# Altium footprint library WG-LOCK.PcbLib: 52 footprints (part 3 of 4)
Each footprint in its own frame and in the unit in brackets; x right, y up, seen from the top. Pads: shape width x height; smd on the part's side, far side on the other; paste and mask are expansions set on the pad; w line width, h text height; cw(c..) or ccw(c..) is an arc to the next point about the centre after c.
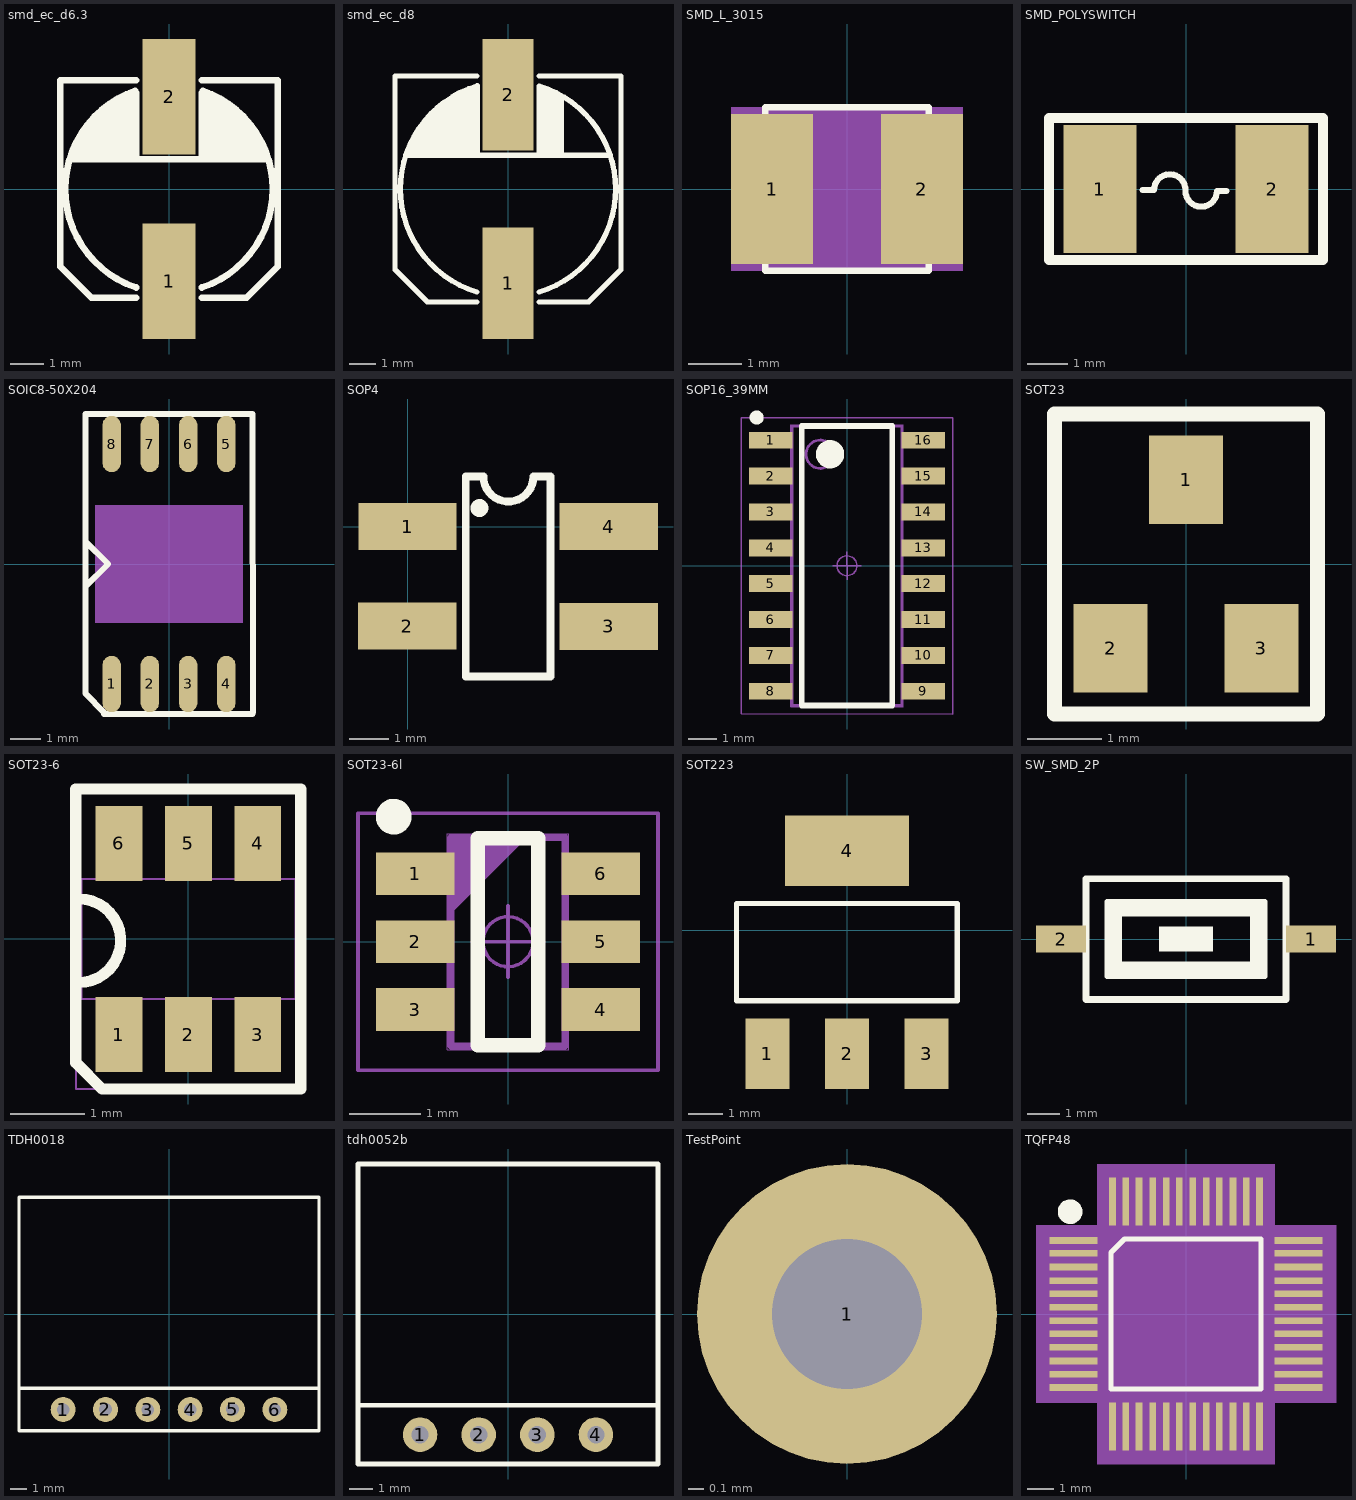
[diagram p2: the footprints below, top view; thin cyan lines are the x and y axes]

## smd_ec_d6.3 [mm]
pads (2):
  rect 1.6x3.5 smd: 1(0,-2.8) 2(0,2.8)
Top Overlay:
  lines w0.2: -3,0.9 3,0.9 ; -2.8,0.9 -2.8,1.4 ; -2.6,0.9 -2.6,1.7 ; -2.4,0.9 -2.4,2 ; -2.2,0.9 -2.2,2.2 ; -2,0.9 -2,2.4 ; -1.8,0.9 -1.8,2.5 ; -1.6,0.9 -1.6,2.7 ; -1.4,0.9 -1.4,2.8 ; -1.2,0.9 -1.2,2.9 ; -1.02,2.98 ccw(c0,0) -3.15,0 ccw(c0,0) -0.996,-2.988 ; -1,-3.3 -2.35,-3.3 -3.3,-2.35 -3.3,3.3 -1,3.3 ; -1,0.9 -1,2.922 ; 0.996,-2.988 ccw(c0,0) 3.15,0 ccw(c0,0) 1.02,2.98 ; 1,-3.3 2.35,-3.3 3.3,-2.35 3.3,3.3 1,3.3 ; 1,0.9 1,2.922 ; 1.2,0.9 1.2,2.9 ; 1.4,0.9 1.4,2.8 ; 1.6,0.9 1.6,2.7 ; 1.8,0.9 1.8,2.5 ; 2,0.9 2,2.4 ; 2.2,0.9 2.2,2.2 ; 2.4,0.9 2.4,2 ; 2.6,0.9 2.6,1.7 ; 2.8,0.9 2.8,1.4

## smd_ec_d8 [mm]
pads (2):
  rect 1.9x4.15 smd: 1(0,-3.5) 2(0,3.5)
Top Overlay:
  lines w0.2: -3.8,1.25 3.8,1.25 ; -1.159,-3.829 cw(c0,0) -4,0 cw(c0,0) -1.145,3.833 -1.145,1.255 ; -1.15,-4.2 -3,-4.2 -4.2,-3 -4.2,0 -4.2,4.2 -1.15,4.2 ; 1.15,-4.2 3,-4.2 4.2,-3 4.2,0 4.2,4.2 1.15,4.2 ; 1.159,-3.829 ccw(c0,0) 4,0 ccw(c0,0) 1.159,3.829 1.159,1.259
  lines w0.25: -1.35,1.3 -1.35,3.7
  lines w0.26: -3.6,1.45 -3.6,1.6 ; -3.45,1.3 -3.45,1.85 ; -3.25,1.3 -3.25,2.2 ; -3.05,1.35 -3.05,2.45 ; -2.85,1.35 -2.85,2.75 ; -2.6,1.4 -2.6,3 ; -2.35,1.35 -2.35,3.2 ; -2.1,1.3 -2.1,3.35 ; -1.85,1.3 -1.85,3.45 ; -1.6,1.35 -1.6,3.6 ; 1.35,1.3 1.35,3.7 ; 1.55,1.35 1.55,3.6 ; 1.75,1.3 1.75,3.5 ; 1.95,1.35 1.95,3.4

## SMD_L_3015 [mil] "SMD_3015"
pads (2):
  rect 60x110 smd: 1(-55,0) 2(55,0)
Top Overlay:
  lines w5: -60,-60 60,-60 60,60 -60,60 -60,-60
Mechanical 8:
  text "2" at 75,-50 h25
  text "1" at -35,-50 h25
Mechanical 10:
  region: -85,60 -85,-60 85,-60 85,60

## SMD_POLYSWITCH [mil]
pads (2):
  rect 72x126 smd: 1(-85,0) 2(85,0)
Top Overlay:
  lines w6: -43,-1 -31.51,-1 cw(c-16,-1) -0.49,-1 ; -0.51,-2 ccw(c15,-2) 30.51,-2 40,-2
  lines w10: -130,70 135,70 135,-70 -135,-70 -135,70 -125,70

## SOIC8-50X204 [mm] "SOIC8-50X204"
pads (8):
  oval 0.61x1.88 smd: 1(-1.91,-4) 2(-0.64,-4) 3(0.64,-4) 4(1.91,-4) 5(1.91,4) 6(0.64,4) 7(-0.64,4) 8(-1.91,4)
Top Overlay:
  lines w0.2: -2.79,-0.76 -2.03,0 -2.79,0.76 ; -2.79,4.953 -2.79,-4.309 -2.159,-4.953 ; -2.79,5 2.79,5 ; -2.167,-5 2.79,-5 ; 2.79,4.953 2.794,-4.953
Mechanical 7:
  region: -2.45,-1.96 2.45,-1.96 2.45,1.96 -2.45,1.96
Mechanical 9:
  lines w0.025: -2.79,-3.3 -2.79,3.81 ; 2.79,-3.81 2.79,3.81

## SOP4 [mm]
pads (4):
  rect 2.5x1.2 smd: 1(0,0) 2(-0.01,-2.53) 3(5.12,-2.54) 4(5.12,0)
Top Overlay:
  circle w0.254: c1.83,0.47 r0.1
  lines w0.2: 3.2,1.27 cw(c2.565,1.27) 1.93,1.27 1.48,1.27 1.48,-3.81 3.64,-3.81 3.64,1.27 3.21,1.27

## SOP16_39MM [mm]
pads (16):
  rect 1.55x0.6 smd: 1(-2.7,4.445) 2(-2.7,3.175) 3(-2.7,1.905) 4(-2.7,0.635) 5(-2.7,-0.635) 6(-2.7,-1.905) 7(-2.7,-3.175) 8(-2.7,-4.445) 9(2.7,-4.445) 10(2.7,-3.175) 11(2.7,-1.905) 12(2.7,-0.635) 13(2.7,0.635) 14(2.7,1.905) 15(2.7,3.175) 16(2.7,4.445)
Top Overlay:
  circle w0.25: c-3.2,5.25 r0.125
  circle w0.5: c-0.6,3.95 r0.25
  lines w0.2: -1.6,-4.95 -1.6,4.95 1.6,4.95 1.6,-4.95 -1.6,-4.95
Mechanical 15:
  circle w0.1: c-0.95,3.95 r0.5
  lines w0.1: -1.95,-4.95 -1.95,4.95 1.95,4.95 1.95,-4.95 -1.95,-4.95
  text "1" at 0.45,-0.164 h0.75
Mechanical 16:
  circle w0.05: c0,0 r0.35
  lines w0.001: -1.995,-5 -1.995,5 1.995,5 1.995,-5 -1.995,-5
  lines w0.05: -0.5,0 0.5,0 ; 0,-0.5 0,0.5 ; -3.75,-5.25 -3.75,5.25 3.75,5.25 3.75,-5.25 -3.75,-5.25

## SOT23 [mm] "SOT23"
pads (3):
  rect 1x1.2 smd: 1(0,1.141) 2(-1.021,-1.141) 3(1.021,-1.141)
Top Overlay:
  lines w0.203: -1.78,-2.03 -1.78,2.03 1.78,2.03 1.78,-2.03 -1.78,-2.03
Mechanical 8:
  text "2" at 0.767,-1.141 h0.64
  text "1" at -1.275,-1.141 h0.64
  text "3" at -0.254,1.141 h0.64
Mechanical 10:
  lines w0.025: -1.778,-2.032 1.778,-2.032 1.778,2.032 -1.778,2.032 -1.778,-2.032

## SOT23-6 [mil] "SOT23-6"
pads (6):
  rect 25x40 smd: 1(-37,-51) 2(0,-51) 3(37,-51) 4(37,51) 5(0,51) 6(-37,51)
Top Overlay:
  lines w6: -58.63,-23.15 ccw(c-58.36,-0.88) -58.36,21.4 ; 59,-79 60,-80 ; 60,-80 60,80 -60,80 -60,-66 -46,-80 60,-80
Mechanical 8:
  text "4" at -33,51 h25
  text "1" at -107,-51 h25
  text "2" at -70,-51 h25
  text "3" at -33,-51 h25
Mechanical 9:
  lines w1: -60,-80 -60,80 60,80 60,-80 -60,-80
Mechanical 10:
  lines w1: -57,-32 57,-32 57,32 -57,32 -57,-32

## SOT23-6l [mm]
pads (6):
  rect 1.1x0.6 smd: 1(-1.3,0.95) 2(-1.3,0) 3(-1.3,-0.95) 4(1.3,-0.95) 5(1.3,0) 6(1.3,0.95)
Top Overlay:
  circle w0.25: c-1.6,1.75 r0.125
  lines w0.2: -0.425,-1.45 -0.425,1.45 0.425,1.45 0.425,-1.45 -0.425,-1.45
Mechanical 15:
  lines w0.1: -0.8,0.46 0.2,1.46 ; -0.8,0.56 0.1,1.46 ; -0.8,0.66 0,1.46 ; -0.8,0.76 -0.1,1.46 ; -0.8,0.86 -0.2,1.46 ; -0.8,0.96 -0.3,1.46 ; -0.8,1.06 -0.4,1.46 ; -0.8,1.16 -0.5,1.46 ; -0.8,1.26 -0.6,1.46 ; -0.8,1.36 -0.7,1.46 ; -0.8,-1.46 -0.8,1.46 0.8,1.46 0.8,-1.46 -0.8,-1.46
  text "1" at 0.45,-0.164 h0.75
Mechanical 16:
  circle w0.05: c0,0 r0.35
  lines w0.001: -0.85,-1.51 -0.85,1.51 0.85,1.51 0.85,-1.51 -0.85,-1.51
  lines w0.05: -0.5,0 0.5,0 ; 0,-0.5 0,0.5 ; -2.1,-1.8 -2.1,1.8 2.1,1.8 2.1,-1.8 -2.1,-1.8

## SOT223 [mil] "SOT223"
pads (4):
  rect 50x80 smd: 1(-90.2,-139.8) 2(0,-139.8) 3(90.2,-139.8)
  rect 140x80 smd: 4(0,90)
Top Overlay:
  lines w6: -125.1,-79.7 -125.1,30.3 124.9,30.3 124.9,-79.7 -125.1,-79.7
Mechanical 10:
  text "2" at -10,-139.8 h25
  text "4" at -10,90 h25
  text "3" at 80.2,-139.8 h25
  text "1" at -100.2,-139.8 h25
Mechanical 13:
  text "LM1117-3.3" at -100,0 h25

## SW_SMD_2P [mil] "SMD_SW_2P"
pads (2):
  rect 60x32 smd: 1(150,0) 2(-150,0)
Top Overlay:
  rectangle: -32.5,-15 32.5,15
  lines w6: -90,45 -95,45 ; 85,-25 85,-35 ; 90,-30 80,-30 ; -95,-45 -95,45 ; -95,-45 95,-45 ; -95,-45 -90,-40 ; -95,45 -90,40 ; -95,45 95,45 ; -90,-40 -90,40 ; -90,-40 90,-40 ; -90,-40 -80,-30 ; -90,40 90,40 ; -85,35 -85,-35 85,-35 ; -85,35 -80,35 -80,30 ; -85,35 -75,35 ; -80,-30 -80,30 ; -80,-30 80,-30 ; -80,30 -75,35 ; -80,30 80,30 80,-30 ; -75,35 85,35 ; 85,-35 85,35 ; 85,-35 90,-40 ; 85,35 90,40 ; 90,-40 90,40 ; 90,-40 95,-45 ; 90,40 95,45 ; 95,-45 95,45
  lines w8: -120,-72.5 -120,72.5 120,72.5 120,-72.5 -120,-72.5

## TDH0018 [mm]
pads (6):
  round 1.5 hole 0.75: 1(-6.35,-5.73) 2(-3.81,-5.73) 3(-1.27,-5.73) 4(1.27,-5.73) 5(3.81,-5.73) 6(6.35,-5.73)
Top Overlay:
  lines w0.2: -8.99,-4.46 8.99,-4.46 ; -9,-7 -9,0 -9,7 0,7 9,7 9,0 9,-7 0,-7 -9,-7

## tdh0052b [mm]
pads (4):
  round 1.5 hole 0.75: 1(-3.81,-5.23) 2(-1.27,-5.23) 3(1.27,-5.23) 4(3.81,-5.23)
Top Overlay:
  lines w0.2: -6.5,-3.96 6.49,-3.96 ; -6.5,-6.5 6.5,-6.5 6.5,0 6.5,6.5 0,6.5 -6.5,6.5 -6.5,0 -6.5,-6.5

## TestPoint [mm]
pads (1):
  round 2 hole 1: 1(0,0)

## TQFP48 [mil] "TQFP48"
pads (48):
  rect 70.1x9.8 smd: 1(-165,107.9) 2(-165,89) 3(-165,68.9) 4(-165,48.8) 5(-165,29.9) 6(-165,9.8) 7(-165,-9.8) 8(-165,-29.1) 9(-165,-48.8) 10(-165,-68.9) 11(-165,-88.2) 12(-165,-107.9) 25(165,-107.9) 26(165,-88.2) 27(165,-68.9) 28(165,-48.8) 29(165,-29.1) 30(165,-9.8) 31(165,9.8) 32(165,29.9) 33(165,48.8) 34(165,68.9) 35(165,89) 36(165,107.9)
  rect 9.8x70.1 smd: 13(-107.9,-165) 14(-88.2,-165) 15(-68.9,-165) 16(-48.8,-165) 17(-29.1,-165) 18(-9.8,-165) 19(9.8,-165) 20(29.9,-165) 21(48.8,-165) 22(68.9,-165) 23(88.2,-165) 24(107.9,-165) 37(107.9,165) 38(88.2,165) 39(68.9,165) 40(48.8,165) 41(29.9,165) 42(9.8,165) 43(-9.8,165) 44(-29.1,165) 45(-48.8,165) 46(-68.9,165) 47(-88.2,165) 48(-107.9,165)
Top Overlay:
  circle w8: c-170,150 r14.14
  circle w8: c-170,150 r6.71
  circle w8: c-170,150 r4.24
  lines w8: -110,-110 -110,90 -90,110 110,110 110,-110 -110,-110
Mechanical 8:
  text "32" at 145,29.9 h25
  text "39" at 48.9,165 h25
  text "12" at -185,-107.9 h25
  text "35" at 145,89 h25
  text "1" at -175,107.9 h25
  text "4" at -175,48.8 h25
  text "43" at -29.8,165 h25
  text "33" at 145,48.8 h25
  text "30" at 145,-9.8 h25
  text "36" at 145,107.9 h25
  text "28" at 145,-48.8 h25
  text "21" at 28.8,-165 h25
  text "18" at -29.8,-165 h25
  text "24" at 87.9,-165 h25
  text "23" at 68.2,-165 h25
  text "9" at -175,-48.8 h25
  text "14" at -108.2,-165 h25
  text "22" at 48.9,-165 h25
  text "8" at -175,-29.1 h25
  text "44" at -49.1,165 h25
  text "34" at 145,68.9 h25
  text "5" at -175,29.9 h25
  text "41" at 9.9,165 h25
  text "40" at 28.8,165 h25
  text "3" at -175,68.9 h25
  text "38" at 68.2,165 h25
  text "29" at 145,-29.1 h25
  text "7" at -175,-9.8 h25
  text "6" at -175,9.8 h25
  text "17" at -49.1,-165 h25
  text "10" at -185,-68.9 h25
  text "11" at -185,-88.2 h25
  text "19" at -10.2,-165 h25
  text "20" at 9.9,-165 h25
  text "13" at -127.9,-165 h25
  text "46" at -88.9,165 h25
  text "16" at -68.8,-165 h25
  text "45" at -68.8,165 h25
  text "47" at -108.2,165 h25
  text "37" at 87.9,165 h25
  text "42" at -10.2,165 h25
  text "15" at -88.9,-165 h25
  text "31" at 145,9.8 h25
  text "2" at -175,89 h25
  text "48" at -127.9,165 h25
  text "25" at 145,-107.9 h25
  text "26" at 145,-88.2 h25
  text "27" at 145,-68.9 h25
Mechanical 9:
  text "LPC1125FBD48/333" at -100,0 h25
Mechanical 10:
  region: -220,130 -130,130 -130,220 130,220 130,130 220,130 220,-130 130,-130 130,-220 -130,-220 -130,-130 -220,-130